# Altium integrated library TI Logic Boundary Scan.IntLib: 169 symbols (part 2 of 5)
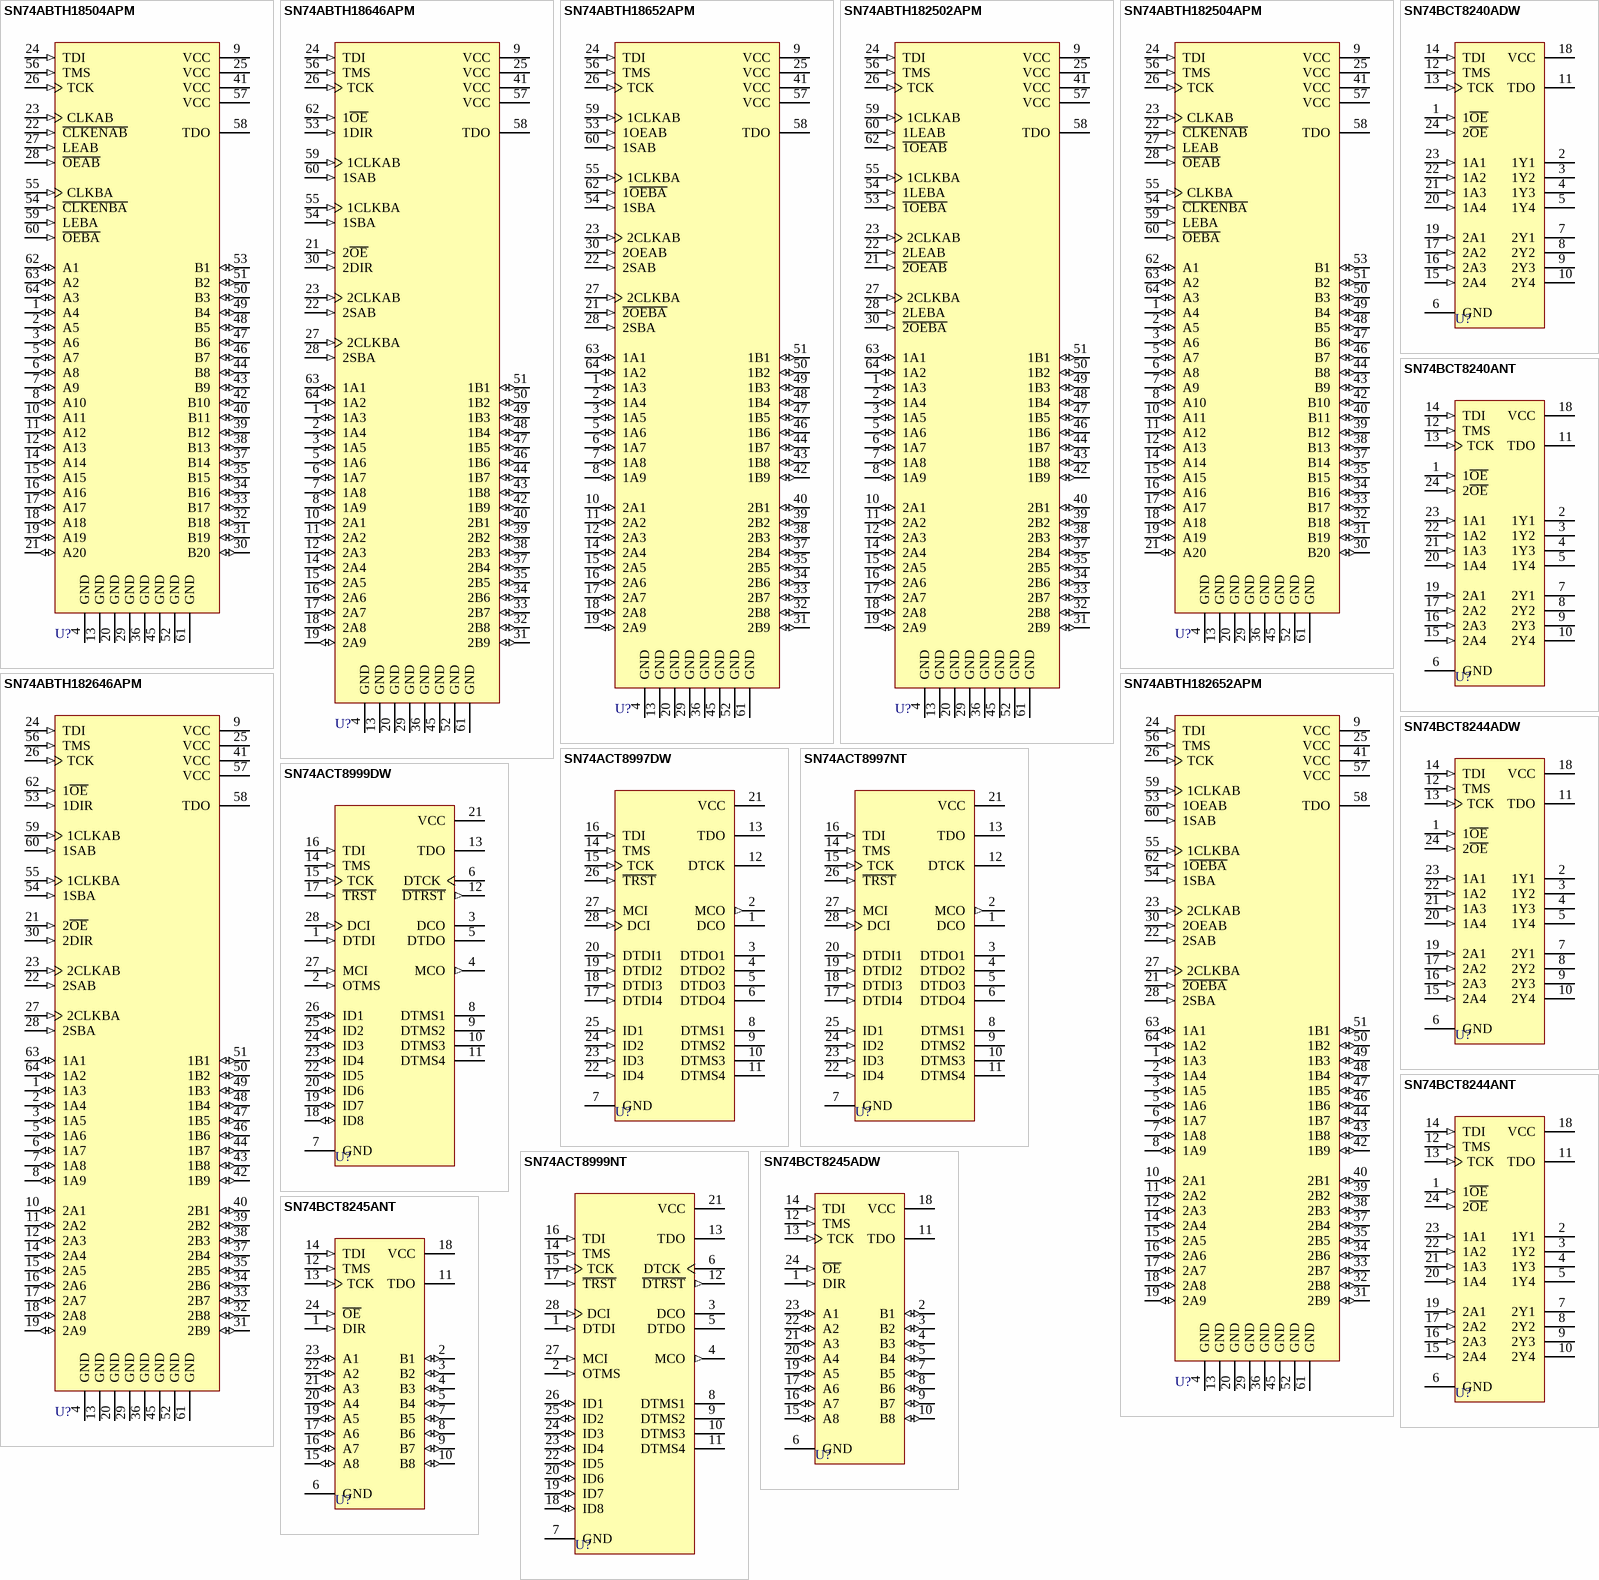
[diagram p13: symbols SN74ABTH18504APM to SN74BCT8245ANT]

## SN74ABTH18646APM
designator U?
Scan Test Device with 18-Bit Transceivers And Registers; Published: 8-Jun-2000; LatestRevisionDate: 13-Apr-2006; LatestRevisionNote: IPC-7351 Footprint Added.; DatasheetVersion: Jul-1996; PackageVersion: Dec-1996; PackageReference: PM064; Publisher: Altium Limited; PackageDescription: 64-Pin Thin Quad Flat Pack 0.5 mm Pitch; ComponentLink1Description: Manufacturer Link; ComponentLink1URL: http://www.ti.com/; ComponentLink2Description: Datasheet; ComponentLink2URL: http://www-s.ti.com/sc/ds/sn74abth18646a.pdf
footprint PM064_N (Thin QFP, 64-Leads, Body 10x10mm, Pitch 0.5mm, IPC Medium Density)
footprint PM064_L (Thin QFP, 64-Leads, Body 10x10mm, Pitch 0.5mm, IPC High Density)
footprint PM064_M (Thin QFP, 64-Leads, Body 10x10mm, Pitch 0.5mm, IPC Low Density)
3D model SN74ABTH18646A-PM064 (64-Pin Thin Quad Flat Pack 0.5 mm Pitch)
pins: 1 1A3 (io), 2 1A4 (io), 3 1A5 (io), 4 GND (power), 5 1A6 (io), 6 1A7 (io), 7 1A8 (io), 8 1A9 (io), 9 VCC (power), 10 2A1 (io), 11 2A2 (io), 12 2A3 (io), 13 GND (power), 14 2A4 (io), 15 2A5 (io), 16 2A6 (io), 17 2A7 (io), 18 2A8 (io), 19 2A9 (io), 20 GND (power), 21 2~{OE} (in), 22 2SAB (in), 23 2CLKAB (in), 24 TDI (in), 25 VCC (power), 26 TCK (in), 27 2CLKBA (in), 28 2SBA (in), 29 GND (power), 30 2DIR (in), 31 2B9 (io), 32 2B8 (io), 33 2B7 (io), 34 2B6 (io), 35 2B5 (io), 36 GND (power), 37 2B4 (io), 38 2B3 (io), 39 2B2 (io), 40 2B1 (io), 41 VCC (power), 42 1B9 (io), 43 1B8 (io), 44 1B7 (io), 45 GND (power), 46 1B6 (io), 47 1B5 (io), 48 1B4 (io), 49 1B3 (io), 50 1B2 (io), 51 1B1 (io), 52 GND (power), 53 1DIR (in), 54 1SBA (in), 55 1CLKBA (in), 56 TMS (in), 57 VCC (power), 58 TDO (hiz), 59 1CLKAB (in), 60 1SAB (in), 61 GND (power), 62 1~{OE} (in), 63 1A1 (io), 64 1A2 (io)

## SN74ABTH18652APM
designator U?
Scan Test Device with 18-Bit Transceivers and Registers; Published: 8-Jun-2000; LatestRevisionDate: 13-Apr-2006; LatestRevisionNote: IPC-7351 Footprint Added.; DatasheetVersion: Jul-1996; PackageVersion: Dec-1996; PackageReference: PM064; Publisher: Altium Limited; PackageDescription: 64-Pin Thin Quad Flat Pack 0.5 mm Pitch; ComponentLink1Description: Manufacturer Link; ComponentLink1URL: http://www.ti.com/; ComponentLink2Description: Datasheet; ComponentLink2URL: http://www-s.ti.com/sc/ds/sn74abth18652a.pdf
footprint PM064_N (Thin QFP, 64-Leads, Body 10x10mm, Pitch 0.5mm, IPC Medium Density)
footprint PM064_L (Thin QFP, 64-Leads, Body 10x10mm, Pitch 0.5mm, IPC High Density)
footprint PM064_M (Thin QFP, 64-Leads, Body 10x10mm, Pitch 0.5mm, IPC Low Density)
3D model SN74ABTH18652A-PM064 (64-Pin Thin Quad Flat Pack 0.5 mm Pitch)
pins: 1 1A3 (io), 2 1A4 (io), 3 1A5 (io), 4 GND (power), 5 1A6 (io), 6 1A7 (io), 7 1A8 (io), 8 1A9 (io), 9 VCC (power), 10 2A1 (io), 11 2A2 (io), 12 2A3 (io), 13 GND (power), 14 2A4 (io), 15 2A5 (io), 16 2A6 (io), 17 2A7 (io), 18 2A8 (io), 19 2A9 (io), 20 GND (power), 21 ~{2OEBA} (in), 22 2SAB (in), 23 2CLKAB (in), 24 TDI (in), 25 VCC (power), 26 TCK (in), 27 2CLKBA (in), 28 2SBA (in), 29 GND (power), 30 2OEAB (in), 31 2B9 (io), 32 2B8 (io), 33 2B7 (io), 34 2B6 (io), 35 2B5 (io), 36 GND (power), 37 2B4 (io), 38 2B3 (io), 39 2B2 (io), 40 2B1 (io), 41 VCC (power), 42 1B9 (io), 43 1B8 (io), 44 1B7 (io), 45 GND (power), 46 1B6 (io), 47 1B5 (io), 48 1B4 (io), 49 1B3 (io), 50 1B2 (io), 51 1B1 (io), 52 GND (power), 53 1OEAB (in), 54 1SBA (in), 55 1CLKBA (in), 56 TMS (in), 57 VCC (power), 58 TDO (hiz), 59 1CLKAB (in), 60 1SAB (in), 61 GND (power), 62 1~{OEBA} (in), 63 1A1 (io), 64 1A2 (io)

## SN74ABTH182502APM
designator U?
Scan Test Device with 18-Bit Universal Bus Transceivers; Published: 8-Jun-2000; LatestRevisionDate: 13-Apr-2006; LatestRevisionNote: IPC-7351 Footprint Added.; DatasheetVersion: Dec-1996; PackageVersion: Dec-1996; PackageReference: PM064; Publisher: Altium Limited; PackageDescription: 64-Pin Thin Quad Flat Pack 0.5 mm Pitch; ComponentLink1Description: Manufacturer Link; ComponentLink1URL: http://www.ti.com/; ComponentLink2Description: Datasheet; ComponentLink2URL: http://www-s.ti.com/sc/ds/sn74abth18502a.pdf
footprint PM064_N (Thin QFP, 64-Leads, Body 10x10mm, Pitch 0.5mm, IPC Medium Density)
footprint PM064_L (Thin QFP, 64-Leads, Body 10x10mm, Pitch 0.5mm, IPC High Density)
footprint PM064_M (Thin QFP, 64-Leads, Body 10x10mm, Pitch 0.5mm, IPC Low Density)
3D model SN74ABTH182502A-PM064 (64-Pin Thin Quad Flat Pack 0.5 mm Pitch)
pins: 1 1A3 (io), 2 1A4 (io), 3 1A5 (io), 4 GND (power), 5 1A6 (io), 6 1A7 (io), 7 1A8 (io), 8 1A9 (io), 9 VCC (power), 10 2A1 (io), 11 2A2 (io), 12 2A3 (io), 13 GND (power), 14 2A4 (io), 15 2A5 (io), 16 2A6 (io), 17 2A7 (io), 18 2A8 (io), 19 2A9 (io), 20 GND (power), 21 ~{2OEAB} (in), 22 2LEAB (in), 23 2CLKAB (in), 24 TDI (in), 25 VCC (power), 26 TCK (in), 27 2CLKBA (in), 28 2LEBA (in), 29 GND (power), 30 ~{2OEBA} (in), 31 2B9 (io), 32 2B8 (io), 33 2B7 (io), 34 2B6 (io), 35 2B5 (io), 36 GND (power), 37 2B4 (io), 38 2B3 (io), 39 2B2 (io), 40 2B1 (io), 41 VCC (power), 42 1B9 (io), 43 1B8 (io), 44 1B7 (io), 45 GND (power), 46 1B6 (io), 47 1B5 (io), 48 1B4 (io), 49 1B3 (io), 50 1B2 (io), 51 1B1 (io), 52 GND (power), 53 ~{1OEBA} (in), 54 1LEBA (in), 55 1CLKBA (in), 56 TMS (in), 57 VCC (power), 58 TDO (hiz), 59 1CLKAB (in), 60 1LEAB (in), 61 GND (power), 62 ~{1OEAB} (in), 63 1A1 (io), 64 1A2 (io)

## SN74ABTH182504APM
designator U?
Scan Test Device with 20-Bit Universal Bus Transceiver; Published: 8-Jun-2000; LatestRevisionDate: 13-Apr-2006; LatestRevisionNote: IPC-7351 Footprint Added.; DatasheetVersion: Jul-1996; PackageVersion: Dec-1996; PackageReference: PM064; Publisher: Altium Limited; PackageDescription: 64-Pin Thin Quad Flat Pack 0.5 mm Pitch; ComponentLink1Description: Manufacturer Link; ComponentLink1URL: http://www.ti.com/; ComponentLink2Description: Datasheet; ComponentLink2URL: http://www-s.ti.com/sc/ds/sn74abth18504a.pdf
footprint PM064_N (Thin QFP, 64-Leads, Body 10x10mm, Pitch 0.5mm, IPC Medium Density)
footprint PM064_L (Thin QFP, 64-Leads, Body 10x10mm, Pitch 0.5mm, IPC High Density)
footprint PM064_M (Thin QFP, 64-Leads, Body 10x10mm, Pitch 0.5mm, IPC Low Density)
3D model SN74ABTH182504A-PM064 (64-Pin Thin Quad Flat Pack 0.5 mm Pitch)
pins: 1 A4 (io), 2 A5 (io), 3 A6 (io), 4 GND (power), 5 A7 (io), 6 A8 (io), 7 A9 (io), 8 A10 (io), 9 VCC (power), 10 A11 (io), 11 A12 (io), 12 A13 (io), 13 GND (power), 14 A14 (io), 15 A15 (io), 16 A16 (io), 17 A17 (io), 18 A18 (io), 19 A19 (io), 20 GND (power), 21 A20 (io), 22 ~{CLKENAB} (in), 23 CLKAB (in), 24 TDI (in), 25 VCC (power), 26 TCK (in), 27 LEAB (in), 28 ~{OEAB} (in), 29 GND (power), 30 B20 (io), 31 B19 (io), 32 B18 (io), 33 B17 (io), 34 B16 (io), 35 B15 (io), 36 GND (power), 37 B14 (io), 38 B13 (io), 39 B12 (io), 40 B11 (io), 41 VCC (power), 42 B10 (io), 43 B9 (io), 44 B8 (io), 45 GND (power), 46 B7 (io), 47 B6 (io), 48 B5 (io), 49 B4 (io), 50 B3 (io), 51 B2 (io), 52 GND (power), 53 B1 (io), 54 ~{CLKENBA} (in), 55 CLKBA (in), 56 TMS (in), 57 VCC (power), 58 TDO (hiz), 59 LEBA (in), 60 ~{OEBA} (in), 61 GND (power), 62 A1 (io), 63 A2 (io), 64 A3 (io)

## SN74ABTH182646APM
designator U?
Scan Test Device with 18-Bit Transceivers and Registers; Published: 8-Jun-2000; LatestRevisionDate: 13-Apr-2006; LatestRevisionNote: IPC-7351 Footprint Added.; DatasheetVersion: Jul-1996; PackageVersion: Dec-1996; PackageReference: PM064; Publisher: Altium Limited; PackageDescription: 64-Pin Thin Quad Flat Pack 0.5 mm Pitch; ComponentLink1Description: Manufacturer Link; ComponentLink1URL: http://www.ti.com/; ComponentLink2Description: Datasheet; ComponentLink2URL: http://www-s.ti.com/sc/ds/sn74abth18646a.pdf
footprint PM064_N (Thin QFP, 64-Leads, Body 10x10mm, Pitch 0.5mm, IPC Medium Density)
footprint PM064_L (Thin QFP, 64-Leads, Body 10x10mm, Pitch 0.5mm, IPC High Density)
footprint PM064_M (Thin QFP, 64-Leads, Body 10x10mm, Pitch 0.5mm, IPC Low Density)
3D model SN74ABTH182646A-PM064 (64-Pin Thin Quad Flat Pack 0.5 mm Pitch)
pins: 1 1A3 (io), 2 1A4 (io), 3 1A5 (io), 4 GND (power), 5 1A6 (io), 6 1A7 (io), 7 1A8 (io), 8 1A9 (io), 9 VCC (power), 10 2A1 (io), 11 2A2 (io), 12 2A3 (io), 13 GND (power), 14 2A4 (io), 15 2A5 (io), 16 2A6 (io), 17 2A7 (io), 18 2A8 (io), 19 2A9 (io), 20 GND (power), 21 2~{OE} (in), 22 2SAB (in), 23 2CLKAB (in), 24 TDI (in), 25 VCC (power), 26 TCK (in), 27 2CLKBA (in), 28 2SBA (in), 29 GND (power), 30 2DIR (in), 31 2B9 (io), 32 2B8 (io), 33 2B7 (io), 34 2B6 (io), 35 2B5 (io), 36 GND (power), 37 2B4 (io), 38 2B3 (io), 39 2B2 (io), 40 2B1 (io), 41 VCC (power), 42 1B9 (io), 43 1B8 (io), 44 1B7 (io), 45 GND (power), 46 1B6 (io), 47 1B5 (io), 48 1B4 (io), 49 1B3 (io), 50 1B2 (io), 51 1B1 (io), 52 GND (power), 53 1DIR (in), 54 1SBA (in), 55 1CLKBA (in), 56 TMS (in), 57 VCC (power), 58 TDO (hiz), 59 1CLKAB (in), 60 1SAB (in), 61 GND (power), 62 1~{OE} (in), 63 1A1 (io), 64 1A2 (io)

## SN74ABTH182652APM
designator U?
Scan Test Device with 18-Bit Transceivers and Registers; Published: 8-Jun-2000; LatestRevisionDate: 13-Apr-2006; LatestRevisionNote: IPC-7351 Footprint Added.; DatasheetVersion: Jul-1996; PackageVersion: Dec-1996; PackageReference: PM064; Publisher: Altium Limited; PackageDescription: 64-Pin Thin Quad Flat Pack 0.5 mm Pitch; ComponentLink1Description: Manufacturer Link; ComponentLink1URL: http://www.ti.com/; ComponentLink2Description: Datasheet; ComponentLink2URL: http://www-s.ti.com/sc/ds/sn74abth18652a.pdf
footprint PM064_N (Thin QFP, 64-Leads, Body 10x10mm, Pitch 0.5mm, IPC Medium Density)
footprint PM064_L (Thin QFP, 64-Leads, Body 10x10mm, Pitch 0.5mm, IPC High Density)
footprint PM064_M (Thin QFP, 64-Leads, Body 10x10mm, Pitch 0.5mm, IPC Low Density)
3D model SN74ABTH182652A-PM064 (64-Pin Thin Quad Flat Pack 0.5 mm Pitch)
pins: 1 1A3 (io), 2 1A4 (io), 3 1A5 (io), 4 GND (power), 5 1A6 (io), 6 1A7 (io), 7 1A8 (io), 8 1A9 (io), 9 VCC (power), 10 2A1 (io), 11 2A2 (io), 12 2A3 (io), 13 GND (power), 14 2A4 (io), 15 2A5 (io), 16 2A6 (io), 17 2A7 (io), 18 2A8 (io), 19 2A9 (io), 20 GND (power), 21 ~{2OEBA} (in), 22 2SAB (in), 23 2CLKAB (in), 24 TDI (in), 25 VCC (power), 26 TCK (in), 27 2CLKBA (in), 28 2SBA (in), 29 GND (power), 30 2OEAB (in), 31 2B9 (io), 32 2B8 (io), 33 2B7 (io), 34 2B6 (io), 35 2B5 (io), 36 GND (power), 37 2B4 (io), 38 2B3 (io), 39 2B2 (io), 40 2B1 (io), 41 VCC (power), 42 1B9 (io), 43 1B8 (io), 44 1B7 (io), 45 GND (power), 46 1B6 (io), 47 1B5 (io), 48 1B4 (io), 49 1B3 (io), 50 1B2 (io), 51 1B1 (io), 52 GND (power), 53 1OEAB (in), 54 1SBA (in), 55 1CLKBA (in), 56 TMS (in), 57 VCC (power), 58 TDO (hiz), 59 1CLKAB (in), 60 1SAB (in), 61 GND (power), 62 1~{OEBA} (in), 63 1A1 (io), 64 1A2 (io)

## SN74ACT8997DW
designator U?
Scan-Path Linker with 4-Bit Identification Bus Scan-Controlled IEEE Std 1149.1 (JTAG) Tap Concatenator; Published: 8-Jun-2000; LatestRevisionDate: 13-Apr-2006; LatestRevisionNote: IPC-7351 Footprint Added.; DatasheetVersion: Dec-1996; PackageVersion: Mar-2000; PackageReference: DW028; Publisher: Altium Limited; PackageDescription: 28-Pin Plastic Small Outline Integrated Circuit 1.27 mm Pitch; Code_JEDEC: MS-013; ComponentLink1Description: Manufacturer Link; ComponentLink1URL: http://www.ti.com/; ComponentLink2Description: Datasheet; ComponentLink2URL: http://www-s.ti.com/sc/ds/sn74act8997.pdf
footprint DW028_N (SOIC, 28-Leads, Body 17.9x7.5mm, Pitch 1.27mm, IPC Medium Density)
footprint DW028_L (SOIC, 28-Leads, Body 17.9x7.5mm, Pitch 1.27mm, IPC High Density)
footprint DW028_M (SOIC, 28-Leads, Body 17.9x7.5mm, Pitch 1.27mm, IPC Low Density)
3D model DW028 (28-Pin Plastic Small Outline Integrated Circuit 1.27 mm Pitch)
signal-integrity model SN74ACT8997DW
pins: 1 DCO (hiz), 2 MCO (out), 3 DTDO1 (hiz), 4 DTDO2 (hiz), 5 DTDO3 (hiz), 6 DTDO4 (hiz), 7 GND (power), 8 DTMS1 (hiz), 9 DTMS2 (hiz), 10 DTMS3 (hiz), 11 DTMS4 (hiz), 12 DTCK (hiz), 13 TDO (hiz), 14 TMS (in), 15 TCK (in), 16 TDI (in), 17 DTDI4 (in), 18 DTDI3 (in), 19 DTDI2 (in), 20 DTDI1 (in), 21 VCC (power), 22 ID4 (in), 23 ID3 (in), 24 ID2 (in), 25 ID1 (in), 26 ~{TRST} (in), 27 MCI (in), 28 DCI (in)

## SN74ACT8997NT
designator U?
Scan-Path Linker with 4-Bit Identification Bus Scan-Controlled IEEE Std 1149.1 (JTAG) Tap Concatenator; ComponentAvailability: Obsolete; Published: 8-Jun-2000; LatestRevisionDate: 06-Jun-2005; LatestRevisionNote: Stylized 3D Model Added.; DatasheetVersion: Dec-1996; PackageVersion: Oct-1994; PackageReference: NT028; Publisher: Altium Limited; PackageDescription: DIP; 28 Leads; Row Spacing 7.62 mm; Pitch 2.54 mm; ComponentLink1Description: Manufacturer Link; ComponentLink1URL: http://www.ti.com/; ComponentLink2Description: Datasheet; ComponentLink2URL: http://www-s.ti.com/sc/ds/sn74act8997.pdf
footprint NT028 (DIP; 28 Leads; Row Spacing 7.62 mm; Pitch 2.54 mm)
3D model NT028 (DIP; 28 Leads; Row Spacing 7.62 mm; Pitch 2.54 mm)
signal-integrity model SN74ACT8997NT
pins: 1 DCO (hiz), 2 MCO (out), 3 DTDO1 (hiz), 4 DTDO2 (hiz), 5 DTDO3 (hiz), 6 DTDO4 (hiz), 7 GND (power), 8 DTMS1 (hiz), 9 DTMS2 (hiz), 10 DTMS3 (hiz), 11 DTMS4 (hiz), 12 DTCK (hiz), 13 TDO (hiz), 14 TMS (in), 15 TCK (in), 16 TDI (in), 17 DTDI4 (in), 18 DTDI3 (in), 19 DTDI2 (in), 20 DTDI1 (in), 21 VCC (power), 22 ID4 (in), 23 ID3 (in), 24 ID2 (in), 25 ID1 (in), 26 ~{TRST} (in), 27 MCI (in), 28 DCI (in)

## SN74ACT8999DW
designator U?
Scan-Path Selector with 8-Bit Bidirectional Data Bus Scan-Controlled Tap Multiplexer; ComponentAvailability: Obsolete; Published: 8-Jun-2000; LatestRevisionDate: 13-Apr-2006; LatestRevisionNote: IPC-7351 Footprint Added.; DatasheetVersion: Dec-1996; PackageVersion: Mar-2000; PackageReference: DW028; Publisher: Altium Limited; PackageDescription: 28-Pin Plastic Small Outline Integrated Circuit 1.27 mm Pitch; Code_JEDEC: MS-013; ComponentLink1Description: Manufacturer Link; ComponentLink1URL: http://www.ti.com/; ComponentLink2Description: Datasheet; ComponentLink2URL: http://www-s.ti.com/sc/ds/sn74act8999.pdf
footprint DW028_N (SOIC, 28-Leads, Body 17.9x7.5mm, Pitch 1.27mm, IPC Medium Density)
footprint DW028_L (SOIC, 28-Leads, Body 17.9x7.5mm, Pitch 1.27mm, IPC High Density)
footprint DW028_M (SOIC, 28-Leads, Body 17.9x7.5mm, Pitch 1.27mm, IPC Low Density)
3D model DW028 (28-Pin Plastic Small Outline Integrated Circuit 1.27 mm Pitch)
signal-integrity model SN74ACT8999DW
pins: 1 DTDI (in), 2 OTMS (in), 3 DCO (hiz), 4 MCO (out), 5 DTDO (hiz), 6 DTCK (hiz), 7 GND (power), 8 DTMS1 (hiz), 9 DTMS2 (hiz), 10 DTMS3 (hiz), 11 DTMS4 (hiz), 12 ~{DTRST} (out), 13 TDO (hiz), 14 TMS (in), 15 TCK (in), 16 TDI (in), 17 ~{TRST} (in), 18 ID8 (io), 19 ID7 (io), 20 ID6 (io), 21 VCC (power), 22 ID5 (io), 23 ID4 (io), 24 ID3 (io), 25 ID2 (io), 26 ID1 (io), 27 MCI (in), 28 DCI (in)

## SN74ACT8999NT
designator U?
Scan-Path Selector with 8-Bit Bidirectional Data Bus Scan-Controlled Tap Multiplexer; ComponentAvailability: Obsolete; Published: 8-Jun-2000; LatestRevisionDate: 06-Jun-2005; LatestRevisionNote: Stylized 3D Model Added.; DatasheetVersion: Dec-1996; PackageVersion: Oct-1994; PackageReference: NT028; Publisher: Altium Limited; PackageDescription: DIP; 28 Leads; Row Spacing 7.62 mm; Pitch 2.54 mm; ComponentLink1Description: Manufacturer Link; ComponentLink1URL: http://www.ti.com/; ComponentLink2Description: Datasheet; ComponentLink2URL: http://www-s.ti.com/sc/ds/sn74act8999.pdf
footprint NT028 (DIP; 28 Leads; Row Spacing 7.62 mm; Pitch 2.54 mm)
3D model NT028 (DIP; 28 Leads; Row Spacing 7.62 mm; Pitch 2.54 mm)
signal-integrity model SN74ACT8999NT
pins: 1 DTDI (in), 2 OTMS (in), 3 DCO (hiz), 4 MCO (out), 5 DTDO (hiz), 6 DTCK (hiz), 7 GND (power), 8 DTMS1 (hiz), 9 DTMS2 (hiz), 10 DTMS3 (hiz), 11 DTMS4 (hiz), 12 ~{DTRST} (out), 13 TDO (hiz), 14 TMS (in), 15 TCK (in), 16 TDI (in), 17 ~{TRST} (in), 18 ID8 (io), 19 ID7 (io), 20 ID6 (io), 21 VCC (power), 22 ID5 (io), 23 ID4 (io), 24 ID3 (io), 25 ID2 (io), 26 ID1 (io), 27 MCI (in), 28 DCI (in)

## SN74BCT8240ADW
designator U?
Scan Test Device with Octal Inverting Buffers; Published: 8-Jun-2000; LatestRevisionDate: 13-Apr-2006; LatestRevisionNote: IPC-7351 Footprint Added.; DatasheetVersion: Dec-1996; PackageVersion: Mar-2000; PackageReference: DW024; Publisher: Altium Limited; PackageDescription: 24-Pin Plastic Small Outline Integrated Circuit 1.27 mm Pitch; Code_JEDEC: MS-013; ComponentLink1Description: Manufacturer Link; ComponentLink1URL: http://www.ti.com/; ComponentLink2Description: Datasheet; ComponentLink2URL: http://www-s.ti.com/sc/ds/sn74bct8240a.pdf
footprint DW024_N (SOIC, 24-Leads, Body 15.4x7.5mm, Pitch 1.27mm, IPC Medium Density)
footprint DW024_L (SOIC, 24-Leads, Body 15.4x7.5mm, Pitch 1.27mm, IPC High Density)
footprint DW024_M (SOIC, 24-Leads, Body 15.4x7.5mm, Pitch 1.27mm, IPC Low Density)
3D model DW024 (24-Pin Plastic Small Outline Integrated Circuit 1.27 mm Pitch)
signal-integrity model SN74BCT8240ADW
pins: 1 1~{OE} (in), 2 1Y1 (hiz), 3 1Y2 (hiz), 4 1Y3 (hiz), 5 1Y4 (hiz), 6 GND (power), 7 2Y1 (hiz), 8 2Y2 (hiz), 9 2Y3 (hiz), 10 2Y4 (hiz), 11 TDO (hiz), 12 TMS (in), 13 TCK (in), 14 TDI (in), 15 2A4 (in), 16 2A3 (in), 17 2A2 (in), 18 VCC (power), 19 2A1 (in), 20 1A4 (in), 21 1A3 (in), 22 1A2 (in), 23 1A1 (in), 24 2~{OE} (in)

## SN74BCT8240ANT
designator U?
Scan Test Device with Octal Inverting Buffers; Published: 8-Jun-2000; LatestRevisionDate: 06-Jun-2005; LatestRevisionNote: Stylized 3D Model Added.; DatasheetVersion: Dec-1996; PackageVersion: Oct-1994; PackageReference: NT024; Publisher: Altium Limited; PackageDescription: DIP; 24 Leads; Row Spacing 7.62 mm; Pitch 2.54 mm; Code_JEDEC: MS-001-AF; ComponentLink1Description: Manufacturer Link; ComponentLink1URL: http://www.ti.com/; ComponentLink2Description: Datasheet; ComponentLink2URL: http://www-s.ti.com/sc/ds/sn74bct8240a.pdf
footprint NT024 (DIP; 24 Leads; Row Spacing 7.62 mm; Pitch 2.54 mm)
3D model JT024 (DIP; 24 Leads; Row Spacing 7.62 mm; Pitch 2.54 mm)
signal-integrity model SN74BCT8240ANT
pins: 1 1~{OE} (in), 2 1Y1 (hiz), 3 1Y2 (hiz), 4 1Y3 (hiz), 5 1Y4 (hiz), 6 GND (power), 7 2Y1 (hiz), 8 2Y2 (hiz), 9 2Y3 (hiz), 10 2Y4 (hiz), 11 TDO (hiz), 12 TMS (in), 13 TCK (in), 14 TDI (in), 15 2A4 (in), 16 2A3 (in), 17 2A2 (in), 18 VCC (power), 19 2A1 (in), 20 1A4 (in), 21 1A3 (in), 22 1A2 (in), 23 1A1 (in), 24 2~{OE} (in)

## SN74BCT8244ADW
designator U?
Scan Test Device with Octal Buffers; Published: 8-Jun-2000; LatestRevisionDate: 13-Apr-2006; LatestRevisionNote: IPC-7351 Footprint Added.; DatasheetVersion: Jul-1996; PackageVersion: Mar-2000; PackageReference: DW024; Publisher: Altium Limited; PackageDescription: 24-Pin Plastic Small Outline Integrated Circuit 1.27 mm Pitch; Code_JEDEC: MS-013; ComponentLink1Description: Manufacturer Link; ComponentLink1URL: http://www.ti.com/; ComponentLink2Description: Datasheet; ComponentLink2URL: http://www-s.ti.com/sc/ds/sn74bct8244a.pdf
footprint DW024_N (SOIC, 24-Leads, Body 15.4x7.5mm, Pitch 1.27mm, IPC Medium Density)
footprint DW024_L (SOIC, 24-Leads, Body 15.4x7.5mm, Pitch 1.27mm, IPC High Density)
footprint DW024_M (SOIC, 24-Leads, Body 15.4x7.5mm, Pitch 1.27mm, IPC Low Density)
3D model DW024 (24-Pin Plastic Small Outline Integrated Circuit 1.27 mm Pitch)
signal-integrity model SN74BCT8244ADW
pins: 1 1~{OE} (in), 2 1Y1 (hiz), 3 1Y2 (hiz), 4 1Y3 (hiz), 5 1Y4 (hiz), 6 GND (power), 7 2Y1 (hiz), 8 2Y2 (hiz), 9 2Y3 (hiz), 10 2Y4 (hiz), 11 TDO (hiz), 12 TMS (in), 13 TCK (in), 14 TDI (in), 15 2A4 (in), 16 2A3 (in), 17 2A2 (in), 18 VCC (power), 19 2A1 (in), 20 1A4 (in), 21 1A3 (in), 22 1A2 (in), 23 1A1 (in), 24 2~{OE} (in)

## SN74BCT8244ANT
designator U?
Scan Test Device with Octal Buffers; Published: 8-Jun-2000; LatestRevisionDate: 06-Jun-2005; LatestRevisionNote: Stylized 3D Model Added.; DatasheetVersion: Jul-1996; PackageVersion: Oct-1994; PackageReference: NT024; Publisher: Altium Limited; PackageDescription: DIP; 24 Leads; Row Spacing 7.62 mm; Pitch 2.54 mm; Code_JEDEC: MS-001-AF; ComponentLink1Description: Manufacturer Link; ComponentLink1URL: http://www.ti.com/; ComponentLink2Description: Datasheet; ComponentLink2URL: http://www-s.ti.com/sc/ds/sn74bct8244a.pdf
footprint NT024 (DIP; 24 Leads; Row Spacing 7.62 mm; Pitch 2.54 mm)
3D model JT024 (DIP; 24 Leads; Row Spacing 7.62 mm; Pitch 2.54 mm)
signal-integrity model SN74BCT8244ANT
pins: 1 1~{OE} (in), 2 1Y1 (hiz), 3 1Y2 (hiz), 4 1Y3 (hiz), 5 1Y4 (hiz), 6 GND (power), 7 2Y1 (hiz), 8 2Y2 (hiz), 9 2Y3 (hiz), 10 2Y4 (hiz), 11 TDO (hiz), 12 TMS (in), 13 TCK (in), 14 TDI (in), 15 2A4 (in), 16 2A3 (in), 17 2A2 (in), 18 VCC (power), 19 2A1 (in), 20 1A4 (in), 21 1A3 (in), 22 1A2 (in), 23 1A1 (in), 24 2~{OE} (in)

## SN74BCT8245ADW
designator U?
Scan Test Device with Octal Bus Transceivers; Published: 8-Jun-2000; LatestRevisionDate: 13-Apr-2006; LatestRevisionNote: IPC-7351 Footprint Added.; DatasheetVersion: Jul-1996; PackageVersion: Mar-2000; PackageReference: DW024; Publisher: Altium Limited; PackageDescription: 24-Pin Plastic Small Outline Integrated Circuit 1.27 mm Pitch; Code_JEDEC: MS-013; ComponentLink1Description: Manufacturer Link; ComponentLink1URL: http://www.ti.com/; ComponentLink2Description: Datasheet; ComponentLink2URL: http://www-s.ti.com/sc/ds/sn74bct8245a.pdf
footprint DW024_N (SOIC, 24-Leads, Body 15.4x7.5mm, Pitch 1.27mm, IPC Medium Density)
footprint DW024_L (SOIC, 24-Leads, Body 15.4x7.5mm, Pitch 1.27mm, IPC High Density)
footprint DW024_M (SOIC, 24-Leads, Body 15.4x7.5mm, Pitch 1.27mm, IPC Low Density)
3D model DW024 (24-Pin Plastic Small Outline Integrated Circuit 1.27 mm Pitch)
signal-integrity model SN74BCT8245ADW
pins: 1 DIR (in), 2 B1 (io), 3 B2 (io), 4 B3 (io), 5 B4 (io), 6 GND (power), 7 B5 (io), 8 B6 (io), 9 B7 (io), 10 B8 (io), 11 TDO (hiz), 12 TMS (in), 13 TCK (in), 14 TDI (in), 15 A8 (io), 16 A7 (io), 17 A6 (io), 18 VCC (power), 19 A5 (io), 20 A4 (io), 21 A3 (io), 22 A2 (io), 23 A1 (io), 24 ~{OE} (in)

## SN74BCT8245ANT
designator U?
Scan Test Device with Octal Bus Transceivers; Published: 8-Jun-2000; LatestRevisionDate: 06-Jun-2005; LatestRevisionNote: Stylized 3D Model Added.; DatasheetVersion: Jul-1996; PackageVersion: Oct-1994; PackageReference: NT024; Publisher: Altium Limited; PackageDescription: DIP; 24 Leads; Row Spacing 7.62 mm; Pitch 2.54 mm; Code_JEDEC: MS-001-AF; ComponentLink1Description: Manufacturer Link; ComponentLink1URL: http://www.ti.com/; ComponentLink2Description: Datasheet; ComponentLink2URL: http://www-s.ti.com/sc/ds/sn74bct8245a.pdf
footprint NT024 (DIP; 24 Leads; Row Spacing 7.62 mm; Pitch 2.54 mm)
3D model JT024 (DIP; 24 Leads; Row Spacing 7.62 mm; Pitch 2.54 mm)
signal-integrity model SN74BCT8245ANT
pins: 1 DIR (in), 2 B1 (io), 3 B2 (io), 4 B3 (io), 5 B4 (io), 6 GND (power), 7 B5 (io), 8 B6 (io), 9 B7 (io), 10 B8 (io), 11 TDO (hiz), 12 TMS (in), 13 TCK (in), 14 TDI (in), 15 A8 (io), 16 A7 (io), 17 A6 (io), 18 VCC (power), 19 A5 (io), 20 A4 (io), 21 A3 (io), 22 A2 (io), 23 A1 (io), 24 ~{OE} (in)

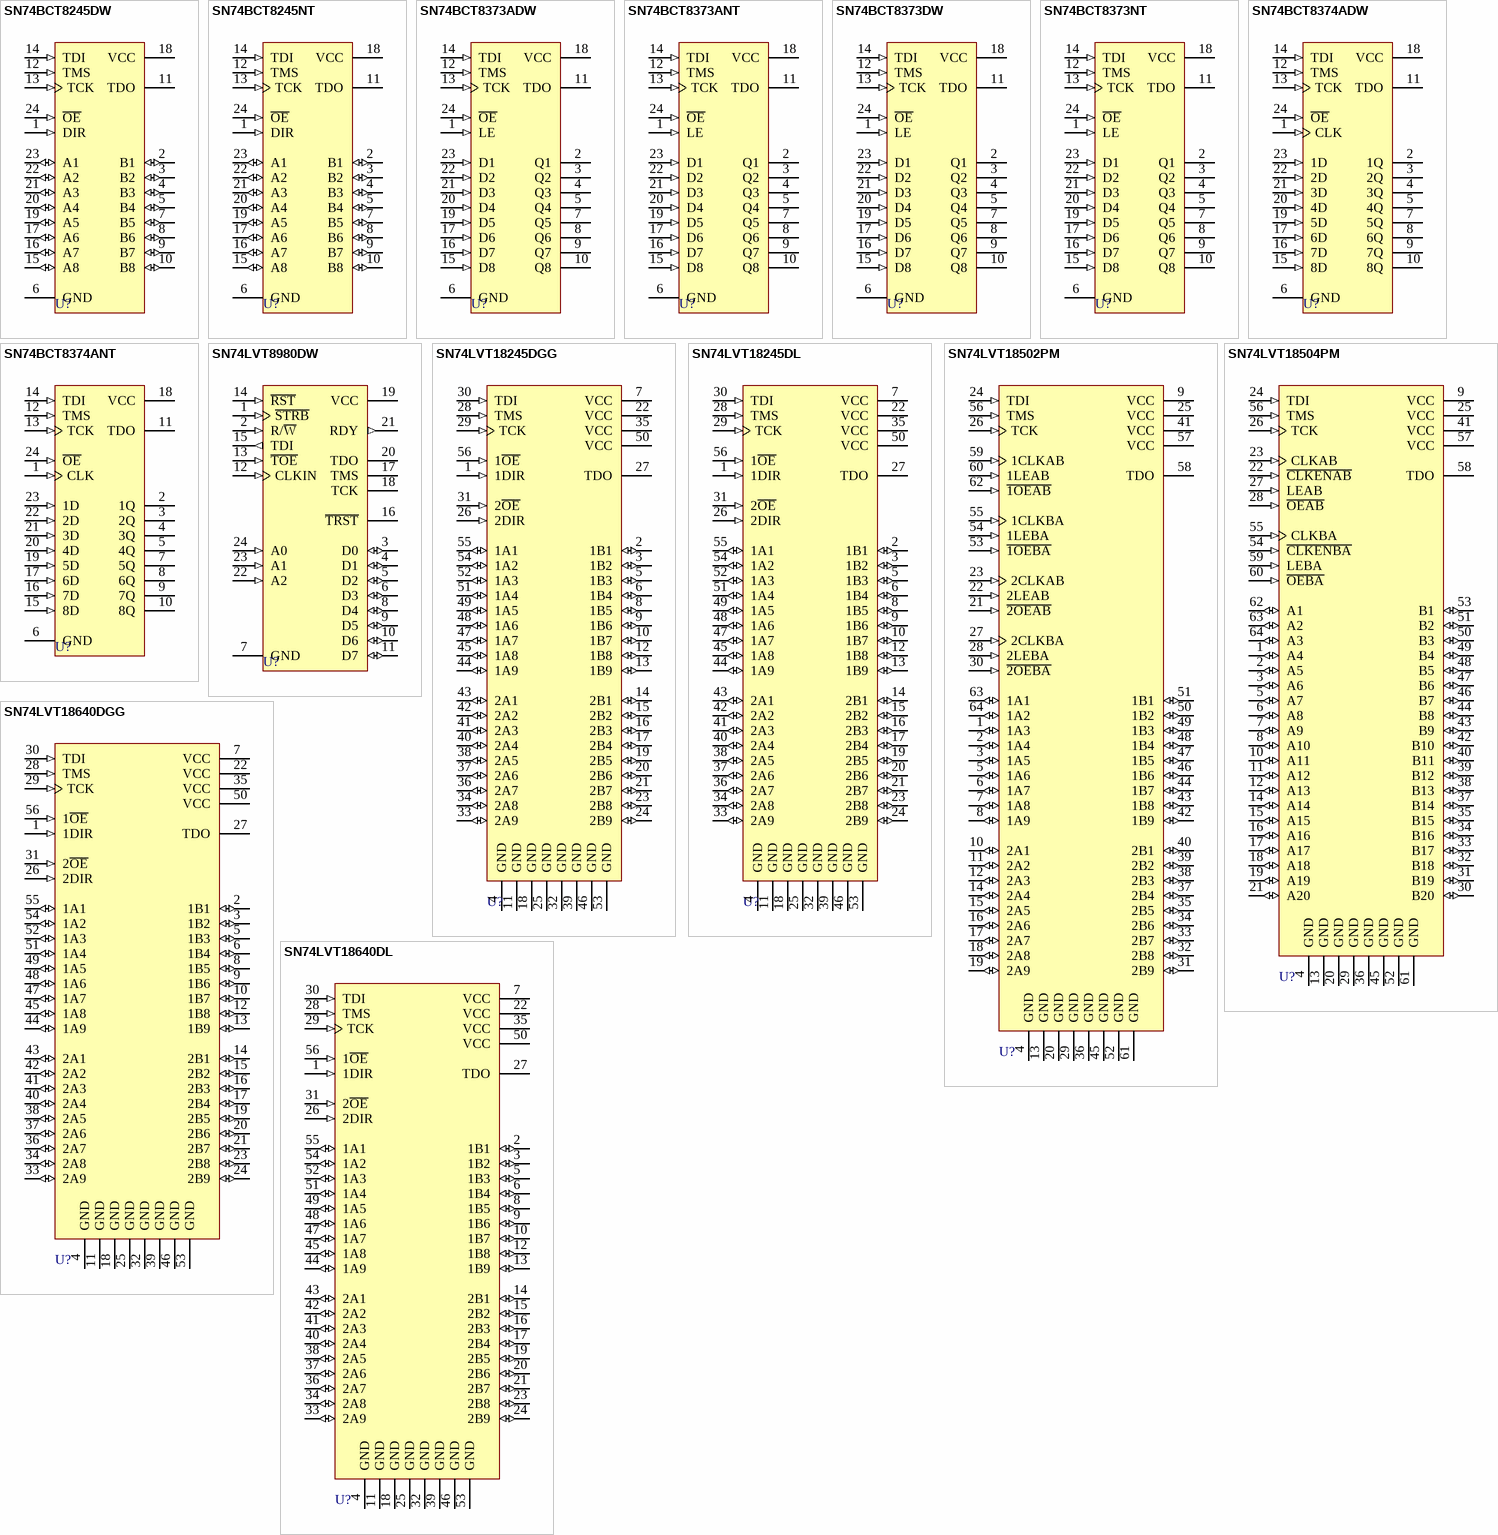
[diagram p3: symbols SN74BCT8245DW to SN74LVT18640DL]

## SN74BCT8245DW
designator U?
Scan Test Device with Octal Bus Transceiver; Published: 8-Jun-2000; LatestRevisionDate: 13-Apr-2006; LatestRevisionNote: IPC-7351 Footprint Added.; DatasheetVersion: May-1990; PackageVersion: Mar-2000; PackageReference: DW024; Publisher: Altium Limited; PackageDescription: 24-Pin Plastic Small Outline Integrated Circuit 1.27 mm Pitch; Code_JEDEC: MS-013; ComponentLink1Description: Manufacturer Link; ComponentLink1URL: http://www.ti.com/
footprint DW024_N (SOIC, 24-Leads, Body 15.4x7.5mm, Pitch 1.27mm, IPC Medium Density)
footprint DW024_L (SOIC, 24-Leads, Body 15.4x7.5mm, Pitch 1.27mm, IPC High Density)
footprint DW024_M (SOIC, 24-Leads, Body 15.4x7.5mm, Pitch 1.27mm, IPC Low Density)
3D model DW024 (24-Pin Plastic Small Outline Integrated Circuit 1.27 mm Pitch)
signal-integrity model SN74BCT8245DW
pins: 1 DIR (in), 2 B1 (io), 3 B2 (io), 4 B3 (io), 5 B4 (io), 6 GND (power), 7 B5 (io), 8 B6 (io), 9 B7 (io), 10 B8 (io), 11 TDO (hiz), 12 TMS (in), 13 TCK (in), 14 TDI (in), 15 A8 (io), 16 A7 (io), 17 A6 (io), 18 VCC (power), 19 A5 (io), 20 A4 (io), 21 A3 (io), 22 A2 (io), 23 A1 (io), 24 ~{OE} (in)

## SN74BCT8245NT
designator U?
Scan Test Device with Octal Bus Transceiver; Published: 8-Jun-2000; LatestRevisionDate: 06-Jun-2005; LatestRevisionNote: Stylized 3D Model Added.; DatasheetVersion: May-1990; PackageVersion: Oct-1994; PackageReference: NT024C; Publisher: Altium Limited; PackageDescription: DIP; 24 Leads; Row Spacing 7.62 mm; Pitch 2.54 mm; Code_JEDEC: MS-001-AF; ComponentLink1Description: Manufacturer Link; ComponentLink1URL: http://www.ti.com/
footprint NT024C (DIP; 24 Leads; Row Spacing 7.62 mm; Pitch 2.54 mm)
3D model JT024 (DIP; 24 Leads; Row Spacing 7.62 mm; Pitch 2.54 mm)
signal-integrity model SN74BCT8245NT
pins: 1 DIR (in), 2 B1 (io), 3 B2 (io), 4 B3 (io), 5 B4 (io), 6 GND (power), 7 B5 (io), 8 B6 (io), 9 B7 (io), 10 B8 (io), 11 TDO (hiz), 12 TMS (in), 13 TCK (in), 14 TDI (in), 15 A8 (io), 16 A7 (io), 17 A6 (io), 18 VCC (power), 19 A5 (io), 20 A4 (io), 21 A3 (io), 22 A2 (io), 23 A1 (io), 24 ~{OE} (in)

## SN74BCT8373ADW
designator U?
Scan Test Device with Octal D-Type Latches; Published: 8-Jun-2000; LatestRevisionDate: 13-Apr-2006; LatestRevisionNote: IPC-7351 Footprint Added.; DatasheetVersion: Jul-1996; PackageVersion: Mar-2000; PackageReference: DW024; Publisher: Altium Limited; PackageDescription: 24-Pin Plastic Small Outline Integrated Circuit 1.27 mm Pitch; Code_JEDEC: MS-013; ComponentLink1Description: Manufacturer Link; ComponentLink1URL: http://www.ti.com/; ComponentLink2Description: Datasheet; ComponentLink2URL: http://www-s.ti.com/sc/ds/sn74bct8373a.pdf
footprint DW024_N (SOIC, 24-Leads, Body 15.4x7.5mm, Pitch 1.27mm, IPC Medium Density)
footprint DW024_L (SOIC, 24-Leads, Body 15.4x7.5mm, Pitch 1.27mm, IPC High Density)
footprint DW024_M (SOIC, 24-Leads, Body 15.4x7.5mm, Pitch 1.27mm, IPC Low Density)
3D model DW024 (24-Pin Plastic Small Outline Integrated Circuit 1.27 mm Pitch)
signal-integrity model SN74BCT8373ADW
pins: 1 LE (in), 2 Q1 (hiz), 3 Q2 (hiz), 4 Q3 (hiz), 5 Q4 (hiz), 6 GND (power), 7 Q5 (hiz), 8 Q6 (hiz), 9 Q7 (hiz), 10 Q8 (hiz), 11 TDO (hiz), 12 TMS (in), 13 TCK (in), 14 TDI (in), 15 D8 (in), 16 D7 (in), 17 D6 (in), 18 VCC (power), 19 D5 (in), 20 D4 (in), 21 D3 (in), 22 D2 (in), 23 D1 (in), 24 ~{OE} (in)

## SN74BCT8373ANT
designator U?
Scan Test Device with Octal D-Type Latches; Published: 8-Jun-2000; LatestRevisionDate: 06-Jun-2005; LatestRevisionNote: Stylized 3D Model Added.; DatasheetVersion: Jul-1996; PackageVersion: Oct-1994; PackageReference: NT024; Publisher: Altium Limited; PackageDescription: DIP; 24 Leads; Row Spacing 7.62 mm; Pitch 2.54 mm; Code_JEDEC: MS-001-AF; ComponentLink1Description: Manufacturer Link; ComponentLink1URL: http://www.ti.com/; ComponentLink2Description: Datasheet; ComponentLink2URL: http://www-s.ti.com/sc/ds/sn74bct8373a.pdf
footprint NT024 (DIP; 24 Leads; Row Spacing 7.62 mm; Pitch 2.54 mm)
3D model JT024 (DIP; 24 Leads; Row Spacing 7.62 mm; Pitch 2.54 mm)
signal-integrity model SN74BCT8373ANT
pins: 1 LE (in), 2 Q1 (hiz), 3 Q2 (hiz), 4 Q3 (hiz), 5 Q4 (hiz), 6 GND (power), 7 Q5 (hiz), 8 Q6 (hiz), 9 Q7 (hiz), 10 Q8 (hiz), 11 TDO (hiz), 12 TMS (in), 13 TCK (in), 14 TDI (in), 15 D8 (in), 16 D7 (in), 17 D6 (in), 18 VCC (power), 19 D5 (in), 20 D4 (in), 21 D3 (in), 22 D2 (in), 23 D1 (in), 24 ~{OE} (in)

## SN74BCT8373DW
designator U?
Scan Test Device with Octal D-Type Latches; ComponentAvailability: Obsolete; Published: 8-Jun-2000; LatestRevisionDate: 13-Apr-2006; LatestRevisionNote: IPC-7351 Footprint Added.; DatasheetVersion: Jun-1994; PackageVersion: Mar-2000; PackageReference: DW024; Publisher: Altium Limited; PackageDescription: 24-Pin Plastic Small Outline Integrated Circuit 1.27 mm Pitch; Code_JEDEC: MS-013; ComponentLink1Description: Manufacturer Link; ComponentLink1URL: http://www.ti.com/; ComponentLink2Description: Datasheet; ComponentLink2URL: http://www-s.ti.com/sc/ds/sn74bct8373.pdf
footprint DW024_N (SOIC, 24-Leads, Body 15.4x7.5mm, Pitch 1.27mm, IPC Medium Density)
footprint DW024_L (SOIC, 24-Leads, Body 15.4x7.5mm, Pitch 1.27mm, IPC High Density)
footprint DW024_M (SOIC, 24-Leads, Body 15.4x7.5mm, Pitch 1.27mm, IPC Low Density)
3D model DW024 (24-Pin Plastic Small Outline Integrated Circuit 1.27 mm Pitch)
signal-integrity model SN74BCT8373DW
pins: 1 LE (in), 2 Q1 (hiz), 3 Q2 (hiz), 4 Q3 (hiz), 5 Q4 (hiz), 6 GND (power), 7 Q5 (hiz), 8 Q6 (hiz), 9 Q7 (hiz), 10 Q8 (hiz), 11 TDO (hiz), 12 TMS (in), 13 TCK (in), 14 TDI (in), 15 D8 (in), 16 D7 (in), 17 D6 (in), 18 VCC (power), 19 D5 (in), 20 D4 (in), 21 D3 (in), 22 D2 (in), 23 D1 (in), 24 ~{OE} (in)

## SN74BCT8373NT
designator U?
Scan Test Device with Octal D-Type Latches; ComponentAvailability: Obsolete; Published: 8-Jun-2000; LatestRevisionDate: 06-Jun-2005; LatestRevisionNote: Stylized 3D Model Added.; DatasheetVersion: Jun-1994; PackageVersion: Oct-1994; PackageReference: NT024; Publisher: Altium Limited; PackageDescription: DIP; 24 Leads; Row Spacing 7.62 mm; Pitch 2.54 mm; Code_JEDEC: MS-001-AF; ComponentLink1Description: Manufacturer Link; ComponentLink1URL: http://www.ti.com/; ComponentLink2Description: Datasheet; ComponentLink2URL: http://www-s.ti.com/sc/ds/sn74bct8373.pdf
footprint NT024 (DIP; 24 Leads; Row Spacing 7.62 mm; Pitch 2.54 mm)
3D model JT024 (DIP; 24 Leads; Row Spacing 7.62 mm; Pitch 2.54 mm)
signal-integrity model SN74BCT8373NT
pins: 1 LE (in), 2 Q1 (hiz), 3 Q2 (hiz), 4 Q3 (hiz), 5 Q4 (hiz), 6 GND (power), 7 Q5 (hiz), 8 Q6 (hiz), 9 Q7 (hiz), 10 Q8 (hiz), 11 TDO (hiz), 12 TMS (in), 13 TCK (in), 14 TDI (in), 15 D8 (in), 16 D7 (in), 17 D6 (in), 18 VCC (power), 19 D5 (in), 20 D4 (in), 21 D3 (in), 22 D2 (in), 23 D1 (in), 24 ~{OE} (in)

## SN74BCT8374ADW
designator U?
Scan Test Device with Octal D-Type Edge-Triggered Flip-Flops; Published: 8-Jun-2000; LatestRevisionDate: 13-Apr-2006; LatestRevisionNote: IPC-7351 Footprint Added.; DatasheetVersion: Jul-1996; PackageVersion: Mar-2000; PackageReference: DW024; Publisher: Altium Limited; PackageDescription: 24-Pin Plastic Small Outline Integrated Circuit 1.27 mm Pitch; Code_JEDEC: MS-013; ComponentLink1Description: Manufacturer Link; ComponentLink1URL: http://www.ti.com/; ComponentLink2Description: Datasheet; ComponentLink2URL: http://www-s.ti.com/sc/ds/sn74bct8374a.pdf
footprint DW024_N (SOIC, 24-Leads, Body 15.4x7.5mm, Pitch 1.27mm, IPC Medium Density)
footprint DW024_L (SOIC, 24-Leads, Body 15.4x7.5mm, Pitch 1.27mm, IPC High Density)
footprint DW024_M (SOIC, 24-Leads, Body 15.4x7.5mm, Pitch 1.27mm, IPC Low Density)
3D model DW024 (24-Pin Plastic Small Outline Integrated Circuit 1.27 mm Pitch)
signal-integrity model SN74BCT8374ADW
pins: 1 CLK (in), 2 1Q (hiz), 3 2Q (hiz), 4 3Q (hiz), 5 4Q (hiz), 6 GND (power), 7 5Q (hiz), 8 6Q (hiz), 9 7Q (hiz), 10 8Q (hiz), 11 TDO (hiz), 12 TMS (in), 13 TCK (in), 14 TDI (in), 15 8D (in), 16 7D (in), 17 6D (in), 18 VCC (power), 19 5D (in), 20 4D (in), 21 3D (in), 22 2D (in), 23 1D (in), 24 ~{OE} (in)

## SN74BCT8374ANT
designator U?
Scan Test Device with Octal D-Type Edge-Triggered Flip-Flops; Published: 8-Jun-2000; LatestRevisionDate: 06-Jun-2005; LatestRevisionNote: Stylized 3D Model Added.; DatasheetVersion: Jul-1996; PackageVersion: Oct-1994; PackageReference: NT024; Publisher: Altium Limited; PackageDescription: DIP; 24 Leads; Row Spacing 7.62 mm; Pitch 2.54 mm; Code_JEDEC: MS-001-AF; ComponentLink1Description: Manufacturer Link; ComponentLink1URL: http://www.ti.com/; ComponentLink2Description: Datasheet; ComponentLink2URL: http://www-s.ti.com/sc/ds/sn74bct8374a.pdf
footprint NT024 (DIP; 24 Leads; Row Spacing 7.62 mm; Pitch 2.54 mm)
3D model JT024 (DIP; 24 Leads; Row Spacing 7.62 mm; Pitch 2.54 mm)
signal-integrity model SN74BCT8374ANT
pins: 1 CLK (in), 2 1Q (hiz), 3 2Q (hiz), 4 3Q (hiz), 5 4Q (hiz), 6 GND (power), 7 5Q (hiz), 8 6Q (hiz), 9 7Q (hiz), 10 8Q (hiz), 11 TDO (hiz), 12 TMS (in), 13 TCK (in), 14 TDI (in), 15 8D (in), 16 7D (in), 17 6D (in), 18 VCC (power), 19 5D (in), 20 4D (in), 21 3D (in), 22 2D (in), 23 1D (in), 24 ~{OE} (in)

## SN74LVT8980DW
designator U?
Embedded Test-Bus Controller IEEE Std 1149.1 (JTAG) Tap Master with 8-Bit Generic Host Interface; ComponentAvailability: Not For New Design; Published: 8-Jun-2000; LatestRevisionDate: 13-Apr-2006; LatestRevisionNote: IPC-7351 Footprint Added.; DatasheetVersion: Aug-1997; PackageVersion: Mar-2000; PackageReference: DW024; Publisher: Altium Limited; PackageDescription: 24-Pin Plastic Small Outline Integrated Circuit 1.27 mm Pitch; Code_JEDEC: MS-013; ComponentLink1Description: Manufacturer Link; ComponentLink1URL: http://www.ti.com/; ComponentLink2Description: Datasheet; ComponentLink2URL: http://www-s.ti.com/sc/ds/sn74lvt8980.pdf
footprint DW024_N (SOIC, 24-Leads, Body 15.4x7.5mm, Pitch 1.27mm, IPC Medium Density)
footprint DW024_L (SOIC, 24-Leads, Body 15.4x7.5mm, Pitch 1.27mm, IPC High Density)
footprint DW024_M (SOIC, 24-Leads, Body 15.4x7.5mm, Pitch 1.27mm, IPC Low Density)
3D model DW024 (24-Pin Plastic Small Outline Integrated Circuit 1.27 mm Pitch)
signal-integrity model SN74LVT8980DW
pins: 1 ~{STRB} (in), 2 R/~{W} (in), 3 D0 (io), 4 D1 (io), 5 D2 (io), 6 D3 (io), 7 GND (power), 8 D4 (io), 9 D5 (io), 10 D6 (io), 11 D7 (io), 12 CLKIN (in), 13 ~{TOE} (in), 14 ~{RST} (in), 15 TDI (out), 16 ~{TRST} (power), 17 TMS (hiz), 18 TCK (hiz), 19 VCC (power), 20 TDO (hiz), 21 RDY (out), 22 A2 (in), 23 A1 (in), 24 A0 (in)

## SN74LVT18245DGG
designator U?
3.3-V ABT Scan Test Device with 18-Bit Bus Transceiver; Published: 8-Jun-2000; LatestRevisionDate: 06-Jun-2005; LatestRevisionNote: Stylized 3D Model Added.; DatasheetVersion: Aug-1994; PackageVersion: Jan-1998; PackageReference: DGG056; Publisher: Altium Limited; PackageDescription: Shrink Small Outline; 56 Leads; Body Width 6.1 mm; Pitch 0.5 mm; ComponentLink1Description: Manufacturer Link; ComponentLink1URL: http://www.ti.com/
footprint DGG056 (Shrink Small Outline; 56 Leads; Body Width 6.1 mm; Pitch 0.5 mm)
3D model DGG056 (Shrink Small Outline; 56 Leads; Body Width 6.1 mm; Pitch 0.5 mm)
signal-integrity model SN74LVT18245DGG
pins: 1 1DIR (in), 2 1B1 (io), 3 1B2 (io), 4 GND (power), 5 1B3 (io), 6 1B4 (io), 7 VCC (power), 8 1B5 (io), 9 1B6 (io), 10 1B7 (io), 11 GND (power), 12 1B8 (io), 13 1B9 (io), 14 2B1 (io), 15 2B2 (io), 16 2B3 (io), 17 2B4 (io), 18 GND (power), 19 2B5 (io), 20 2B6 (io), 21 2B7 (io), 22 VCC (power), 23 2B8 (io), 24 2B9 (io), 25 GND (power), 26 2DIR (in), 27 TDO (hiz), 28 TMS (in), 29 TCK (in), 30 TDI (in), 31 2~{OE} (in), 32 GND (power), 33 2A9 (io), 34 2A8 (io), 35 VCC (power), 36 2A7 (io), 37 2A6 (io), 38 2A5 (io), 39 GND (power), 40 2A4 (io), 41 2A3 (io), 42 2A2 (io), 43 2A1 (io), 44 1A9 (io), 45 1A8 (io), 46 GND (power), 47 1A7 (io), 48 1A6 (io), 49 1A5 (io), 50 VCC (power), 51 1A4 (io), 52 1A3 (io), 53 GND (power), 54 1A2 (io), 55 1A1 (io), 56 1~{OE} (in)

## SN74LVT18245DL
designator U?
3.3-V ABT Scan Test Device with 18-Bit Bus Transceiver; Published: 8-Jun-2000; LatestRevisionDate: 06-Jun-2005; LatestRevisionNote: Stylized 3D Model Added.; DatasheetVersion: Aug-1994; PackageVersion: Dec-2001; PackageReference: DL056; Publisher: Altium Limited; PackageDescription: SSOP; 56 Leads; Body Width 7.5 mm; Pitch 0.635 mm; Code_JEDEC: MO-118-AB; Code_IPC: SSO56; ComponentLink1Description: Manufacturer Link; ComponentLink1URL: http://www.ti.com/
footprint DL056 (SSOP; 56 Leads; Body Width 7.5 mm; Pitch 0.635 mm)
3D model DL056 (SSOP; 56 Leads; Body Width 7.5 mm; Pitch 0.635 mm)
signal-integrity model SN74LVT18245DL
pins: 1 1DIR (in), 2 1B1 (io), 3 1B2 (io), 4 GND (power), 5 1B3 (io), 6 1B4 (io), 7 VCC (power), 8 1B5 (io), 9 1B6 (io), 10 1B7 (io), 11 GND (power), 12 1B8 (io), 13 1B9 (io), 14 2B1 (io), 15 2B2 (io), 16 2B3 (io), 17 2B4 (io), 18 GND (power), 19 2B5 (io), 20 2B6 (io), 21 2B7 (io), 22 VCC (power), 23 2B8 (io), 24 2B9 (io), 25 GND (power), 26 2DIR (in), 27 TDO (hiz), 28 TMS (in), 29 TCK (in), 30 TDI (in), 31 2~{OE} (in), 32 GND (power), 33 2A9 (io), 34 2A8 (io), 35 VCC (power), 36 2A7 (io), 37 2A6 (io), 38 2A5 (io), 39 GND (power), 40 2A4 (io), 41 2A3 (io), 42 2A2 (io), 43 2A1 (io), 44 1A9 (io), 45 1A8 (io), 46 GND (power), 47 1A7 (io), 48 1A6 (io), 49 1A5 (io), 50 VCC (power), 51 1A4 (io), 52 1A3 (io), 53 GND (power), 54 1A2 (io), 55 1A1 (io), 56 1~{OE} (in)

## SN74LVT18502PM
designator U?
3.3-V ABT Scan Test Device with 18-Bit Universal Bus Transceiver; ComponentAvailability: Obsolete; Published: 8-Jun-2000; LatestRevisionDate: 13-Apr-2006; LatestRevisionNote: IPC-7351 Footprint Added.; DatasheetVersion: Jul-1994; PackageVersion: Dec-1996; PackageReference: PM064; Publisher: Altium Limited; PackageDescription: 64-Pin Thin Quad Flat Pack 0.5 mm Pitch; ComponentLink1Description: Manufacturer Link; ComponentLink1URL: http://www.ti.com/; ComponentLink2Description: Datasheet; ComponentLink2URL: http://www-s.ti.com/sc/ds/sn74lvt18502.pdf
footprint PM064_N (Thin QFP, 64-Leads, Body 10x10mm, Pitch 0.5mm, IPC Medium Density)
footprint PM064_L (Thin QFP, 64-Leads, Body 10x10mm, Pitch 0.5mm, IPC High Density)
footprint PM064_M (Thin QFP, 64-Leads, Body 10x10mm, Pitch 0.5mm, IPC Low Density)
3D model SN74LVT18502-PM064 (64-Pin Thin Quad Flat Pack 0.5 mm Pitch)
signal-integrity model SN74LVT18502PM
pins: 1 1A3 (io), 2 1A4 (io), 3 1A5 (io), 4 GND (power), 5 1A6 (io), 6 1A7 (io), 7 1A8 (io), 8 1A9 (io), 9 VCC (power), 10 2A1 (io), 11 2A2 (io), 12 2A3 (io), 13 GND (power), 14 2A4 (io), 15 2A5 (io), 16 2A6 (io), 17 2A7 (io), 18 2A8 (io), 19 2A9 (io), 20 GND (power), 21 ~{2OEAB} (in), 22 2LEAB (in), 23 2CLKAB (in), 24 TDI (in), 25 VCC (power), 26 TCK (in), 27 2CLKBA (in), 28 2LEBA (in), 29 GND (power), 30 ~{2OEBA} (in), 31 2B9 (io), 32 2B8 (io), 33 2B7 (io), 34 2B6 (io), 35 2B5 (io), 36 GND (power), 37 2B4 (io), 38 2B3 (io), 39 2B2 (io), 40 2B1 (io), 41 VCC (power), 42 1B9 (io), 43 1B8 (io), 44 1B7 (io), 45 GND (power), 46 1B6 (io), 47 1B5 (io), 48 1B4 (io), 49 1B3 (io), 50 1B2 (io), 51 1B1 (io), 52 GND (power), 53 ~{1OEBA} (in), 54 1LEBA (in), 55 1CLKBA (in), 56 TMS (in), 57 VCC (power), 58 TDO (hiz), 59 1CLKAB (in), 60 1LEAB (in), 61 GND (power), 62 ~{1OEAB} (in), 63 1A1 (io), 64 1A2 (io)

## SN74LVT18504PM
designator U?
3.3-V ABT Scan Test Device with 20-Bit Universal Bus Transceiver; ComponentAvailability: Obsolete; Published: 8-Jun-2000; LatestRevisionDate: 13-Apr-2006; LatestRevisionNote: IPC-7351 Footprint Added.; DatasheetVersion: Jul-1994; PackageVersion: Dec-1996; PackageReference: PM064; Publisher: Altium Limited; PackageDescription: 64-Pin Thin Quad Flat Pack 0.5 mm Pitch; ComponentLink1Description: Manufacturer Link; ComponentLink1URL: http://www.ti.com/; ComponentLink2Description: Datasheet; ComponentLink2URL: http://www-s.ti.com/sc/ds/sn74lvt18504.pdf
footprint PM064_N (Thin QFP, 64-Leads, Body 10x10mm, Pitch 0.5mm, IPC Medium Density)
footprint PM064_L (Thin QFP, 64-Leads, Body 10x10mm, Pitch 0.5mm, IPC High Density)
footprint PM064_M (Thin QFP, 64-Leads, Body 10x10mm, Pitch 0.5mm, IPC Low Density)
3D model SN74LVT18504-PM064 (64-Pin Thin Quad Flat Pack 0.5 mm Pitch)
signal-integrity model SN74LVT18504PM
pins: 1 A4 (io), 2 A5 (io), 3 A6 (io), 4 GND (power), 5 A7 (io), 6 A8 (io), 7 A9 (io), 8 A10 (io), 9 VCC (power), 10 A11 (io), 11 A12 (io), 12 A13 (io), 13 GND (power), 14 A14 (io), 15 A15 (io), 16 A16 (io), 17 A17 (io), 18 A18 (io), 19 A19 (io), 20 GND (power), 21 A20 (io), 22 ~{CLKENAB} (in), 23 CLKAB (in), 24 TDI (in), 25 VCC (power), 26 TCK (in), 27 LEAB (in), 28 ~{OEAB} (in), 29 GND (power), 30 B20 (io), 31 B19 (io), 32 B18 (io), 33 B17 (io), 34 B16 (io), 35 B15 (io), 36 GND (power), 37 B14 (io), 38 B13 (io), 39 B12 (io), 40 B11 (io), 41 VCC (power), 42 B10 (io), 43 B9 (io), 44 B8 (io), 45 GND (power), 46 B7 (io), 47 B6 (io), 48 B5 (io), 49 B4 (io), 50 B3 (io), 51 B2 (io), 52 GND (power), 53 B1 (io), 54 ~{CLKENBA} (in), 55 CLKBA (in), 56 TMS (in), 57 VCC (power), 58 TDO (hiz), 59 LEBA (in), 60 ~{OEBA} (in), 61 GND (power), 62 A1 (io), 63 A2 (io), 64 A3 (io)

## SN74LVT18640DGG
designator U?
3.3-V ABT Scan Test Device with 18-Bit Inverting Bus Transceiver; Published: 8-Jun-2000; LatestRevisionDate: 06-Jun-2005; LatestRevisionNote: Stylized 3D Model Added.; DatasheetVersion: Aug-1994; PackageVersion: Jan-1998; PackageReference: DGG056; Publisher: Altium Limited; PackageDescription: Shrink Small Outline; 56 Leads; Body Width 6.1 mm; Pitch 0.5 mm; ComponentLink1Description: Manufacturer Link; ComponentLink1URL: http://www.ti.com/
footprint DGG056 (Shrink Small Outline; 56 Leads; Body Width 6.1 mm; Pitch 0.5 mm)
3D model DGG056 (Shrink Small Outline; 56 Leads; Body Width 6.1 mm; Pitch 0.5 mm)
signal-integrity model SN74LVT18640DGG
pins: 1 1DIR (in), 2 1B1 (io), 3 1B2 (io), 4 GND (power), 5 1B3 (io), 6 1B4 (io), 7 VCC (power), 8 1B5 (io), 9 1B6 (io), 10 1B7 (io), 11 GND (power), 12 1B8 (io), 13 1B9 (io), 14 2B1 (io), 15 2B2 (io), 16 2B3 (io), 17 2B4 (io), 18 GND (power), 19 2B5 (io), 20 2B6 (io), 21 2B7 (io), 22 VCC (power), 23 2B8 (io), 24 2B9 (io), 25 GND (power), 26 2DIR (in), 27 TDO (hiz), 28 TMS (in), 29 TCK (in), 30 TDI (in), 31 2~{OE} (in), 32 GND (power), 33 2A9 (io), 34 2A8 (io), 35 VCC (power), 36 2A7 (io), 37 2A6 (io), 38 2A5 (io), 39 GND (power), 40 2A4 (io), 41 2A3 (io), 42 2A2 (io), 43 2A1 (io), 44 1A9 (io), 45 1A8 (io), 46 GND (power), 47 1A7 (io), 48 1A6 (io), 49 1A5 (io), 50 VCC (power), 51 1A4 (io), 52 1A3 (io), 53 GND (power), 54 1A2 (io), 55 1A1 (io), 56 1~{OE} (in)

## SN74LVT18640DL
designator U?
3.3-V ABT Scan Test Device with 18-Bit Inverting Bus Transceiver; Published: 8-Jun-2000; LatestRevisionDate: 06-Jun-2005; LatestRevisionNote: Stylized 3D Model Added.; DatasheetVersion: Aug-1994; PackageVersion: Dec-2001; PackageReference: DL056; Publisher: Altium Limited; PackageDescription: SSOP; 56 Leads; Body Width 7.5 mm; Pitch 0.635 mm; Code_JEDEC: MO-118-AB; Code_IPC: SSO56; ComponentLink1Description: Manufacturer Link; ComponentLink1URL: http://www.ti.com/
footprint DL056 (SSOP; 56 Leads; Body Width 7.5 mm; Pitch 0.635 mm)
3D model DL056 (SSOP; 56 Leads; Body Width 7.5 mm; Pitch 0.635 mm)
signal-integrity model SN74LVT18640DL
pins: 1 1DIR (in), 2 1B1 (io), 3 1B2 (io), 4 GND (power), 5 1B3 (io), 6 1B4 (io), 7 VCC (power), 8 1B5 (io), 9 1B6 (io), 10 1B7 (io), 11 GND (power), 12 1B8 (io), 13 1B9 (io), 14 2B1 (io), 15 2B2 (io), 16 2B3 (io), 17 2B4 (io), 18 GND (power), 19 2B5 (io), 20 2B6 (io), 21 2B7 (io), 22 VCC (power), 23 2B8 (io), 24 2B9 (io), 25 GND (power), 26 2DIR (in), 27 TDO (hiz), 28 TMS (in), 29 TCK (in), 30 TDI (in), 31 2~{OE} (in), 32 GND (power), 33 2A9 (io), 34 2A8 (io), 35 VCC (power), 36 2A7 (io), 37 2A6 (io), 38 2A5 (io), 39 GND (power), 40 2A4 (io), 41 2A3 (io), 42 2A2 (io), 43 2A1 (io), 44 1A9 (io), 45 1A8 (io), 46 GND (power), 47 1A7 (io), 48 1A6 (io), 49 1A5 (io), 50 VCC (power), 51 1A4 (io), 52 1A3 (io), 53 GND (power), 54 1A2 (io), 55 1A1 (io), 56 1~{OE} (in)

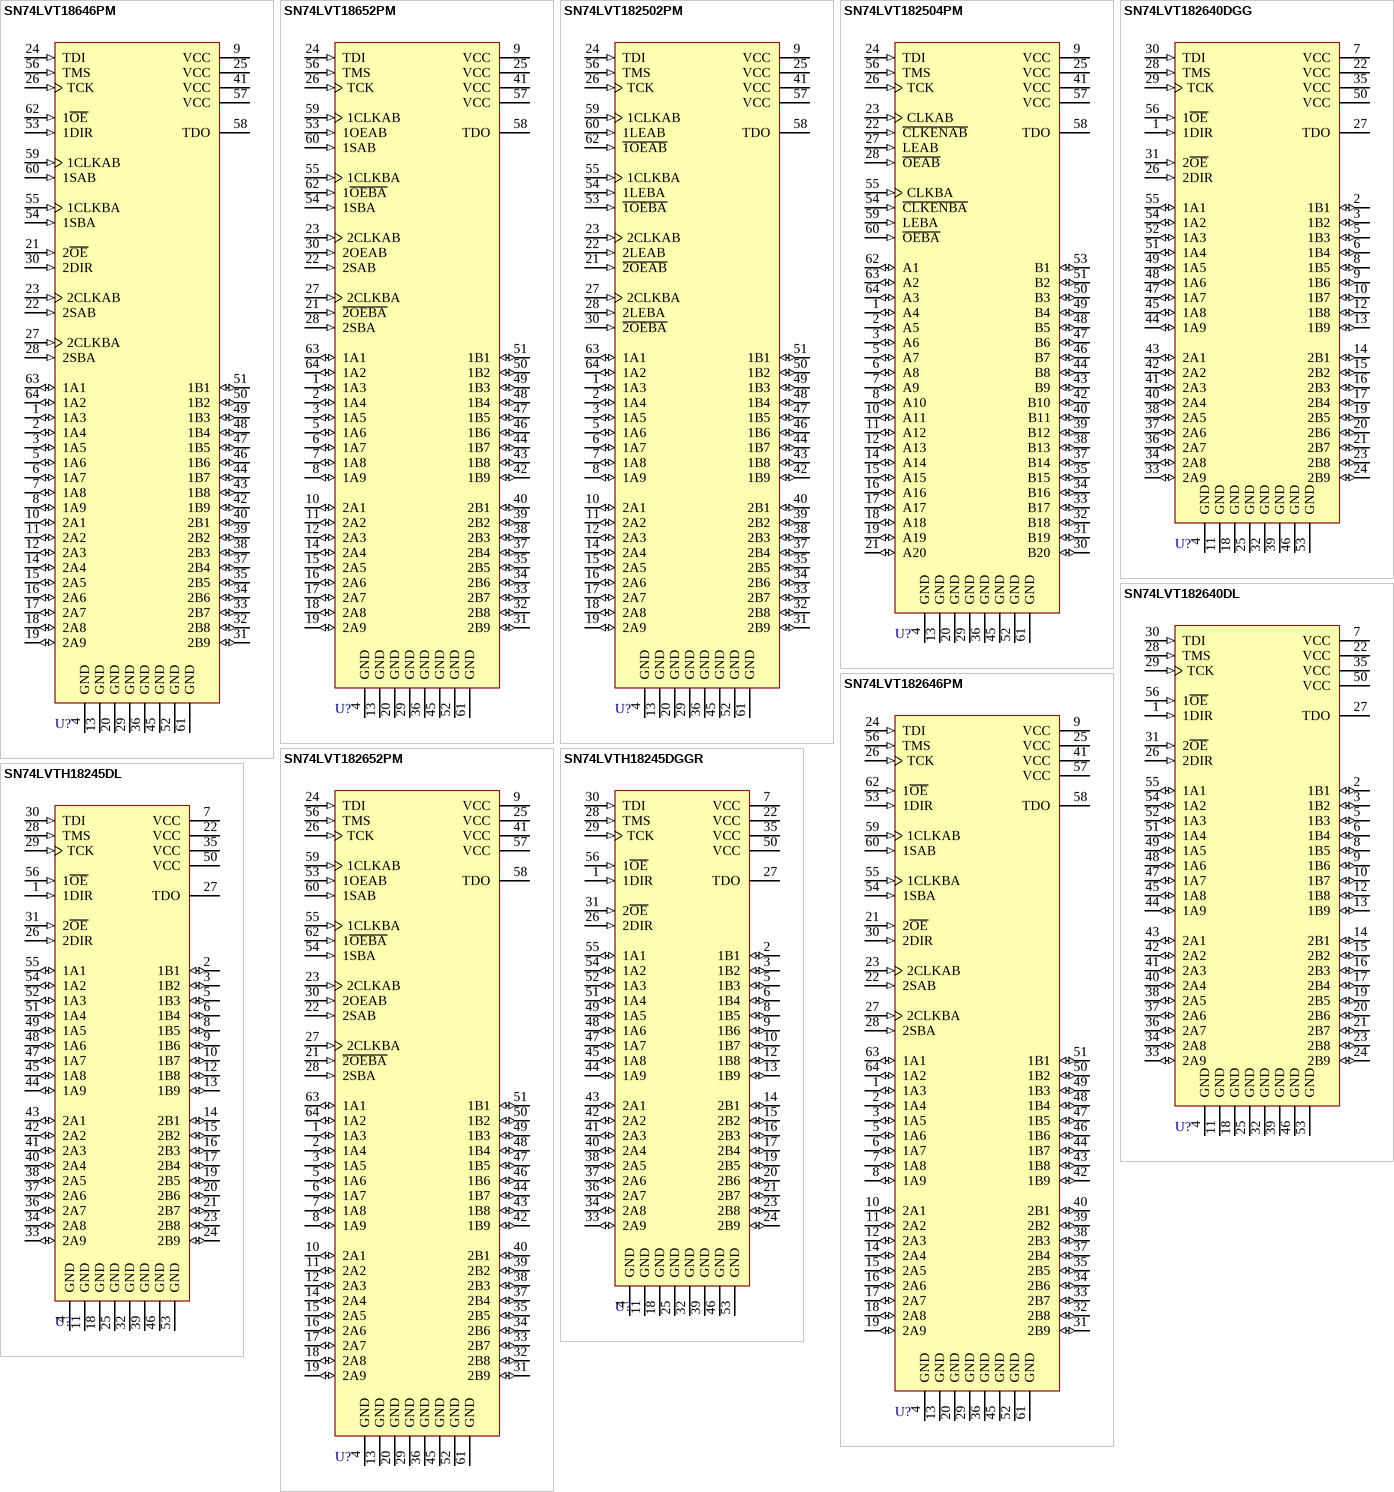
[diagram p4: symbols SN74LVT18646PM to SN74LVTH18245DL]

## SN74LVT18646PM
designator U?
3.3-V ABT Scan Test Device with 18-Bit Transceiver and Register; Published: 8-Jun-2000; LatestRevisionDate: 13-Apr-2006; LatestRevisionNote: IPC-7351 Footprint Added.; DatasheetVersion: Jul-1994; PackageVersion: Dec-1996; PackageReference: PM064; Publisher: Altium Limited; PackageDescription: 64-Pin Thin Quad Flat Pack 0.5 mm Pitch; ComponentLink1Description: Manufacturer Link; ComponentLink1URL: http://www.ti.com/
footprint PM064_N (Thin QFP, 64-Leads, Body 10x10mm, Pitch 0.5mm, IPC Medium Density)
footprint PM064_L (Thin QFP, 64-Leads, Body 10x10mm, Pitch 0.5mm, IPC High Density)
footprint PM064_M (Thin QFP, 64-Leads, Body 10x10mm, Pitch 0.5mm, IPC Low Density)
3D model SN74LVT18646-PM064 (64-Pin Thin Quad Flat Pack 0.5 mm Pitch)
signal-integrity model SN74LVT18646PM
pins: 1 1A3 (io), 2 1A4 (io), 3 1A5 (io), 4 GND (power), 5 1A6 (io), 6 1A7 (io), 7 1A8 (io), 8 1A9 (io), 9 VCC (power), 10 2A1 (io), 11 2A2 (io), 12 2A3 (io), 13 GND (power), 14 2A4 (io), 15 2A5 (io), 16 2A6 (io), 17 2A7 (io), 18 2A8 (io), 19 2A9 (io), 20 GND (power), 21 2~{OE} (in), 22 2SAB (in), 23 2CLKAB (in), 24 TDI (in), 25 VCC (power), 26 TCK (in), 27 2CLKBA (in), 28 2SBA (in), 29 GND (power), 30 2DIR (in), 31 2B9 (io), 32 2B8 (io), 33 2B7 (io), 34 2B6 (io), 35 2B5 (io), 36 GND (power), 37 2B4 (io), 38 2B3 (io), 39 2B2 (io), 40 2B1 (io), 41 VCC (power), 42 1B9 (io), 43 1B8 (io), 44 1B7 (io), 45 GND (power), 46 1B6 (io), 47 1B5 (io), 48 1B4 (io), 49 1B3 (io), 50 1B2 (io), 51 1B1 (io), 52 GND (power), 53 1DIR (in), 54 1SBA (in), 55 1CLKBA (in), 56 TMS (in), 57 VCC (power), 58 TDO (hiz), 59 1CLKAB (in), 60 1SAB (in), 61 GND (power), 62 1~{OE} (in), 63 1A1 (io), 64 1A2 (io)

## SN74LVT18652PM
designator U?
3.3-V ABT Scan Test Device with 18-Bit Transceivers and Registers; Published: 8-Jun-2000; LatestRevisionDate: 13-Apr-2006; LatestRevisionNote: IPC-7351 Footprint Added.; DatasheetVersion: Jul-1994; PackageVersion: Dec-1996; PackageReference: PM064; Publisher: Altium Limited; PackageDescription: 64-Pin Thin Quad Flat Pack 0.5 mm Pitch; ComponentLink1Description: Manufacturer Link; ComponentLink1URL: http://www.ti.com/
footprint PM064_N (Thin QFP, 64-Leads, Body 10x10mm, Pitch 0.5mm, IPC Medium Density)
footprint PM064_L (Thin QFP, 64-Leads, Body 10x10mm, Pitch 0.5mm, IPC High Density)
footprint PM064_M (Thin QFP, 64-Leads, Body 10x10mm, Pitch 0.5mm, IPC Low Density)
3D model SN74LVT18652-PM064 (64-Pin Thin Quad Flat Pack 0.5 mm Pitch)
signal-integrity model SN74LVT18652PM
pins: 1 1A3 (io), 2 1A4 (io), 3 1A5 (io), 4 GND (power), 5 1A6 (io), 6 1A7 (io), 7 1A8 (io), 8 1A9 (io), 9 VCC (power), 10 2A1 (io), 11 2A2 (io), 12 2A3 (io), 13 GND (power), 14 2A4 (io), 15 2A5 (io), 16 2A6 (io), 17 2A7 (io), 18 2A8 (io), 19 2A9 (io), 20 GND (power), 21 ~{2OEBA} (in), 22 2SAB (in), 23 2CLKAB (in), 24 TDI (in), 25 VCC (power), 26 TCK (in), 27 2CLKBA (in), 28 2SBA (in), 29 GND (power), 30 2OEAB (in), 31 2B9 (io), 32 2B8 (io), 33 2B7 (io), 34 2B6 (io), 35 2B5 (io), 36 GND (power), 37 2B4 (io), 38 2B3 (io), 39 2B2 (io), 40 2B1 (io), 41 VCC (power), 42 1B9 (io), 43 1B8 (io), 44 1B7 (io), 45 GND (power), 46 1B6 (io), 47 1B5 (io), 48 1B4 (io), 49 1B3 (io), 50 1B2 (io), 51 1B1 (io), 52 GND (power), 53 1OEAB (in), 54 1SBA (in), 55 1CLKBA (in), 56 TMS (in), 57 VCC (power), 58 TDO (hiz), 59 1CLKAB (in), 60 1SAB (in), 61 GND (power), 62 1~{OEBA} (in), 63 1A1 (io), 64 1A2 (io)

## SN74LVT182502PM
designator U?
3.3-V ABT Scan Test Device with 18-Bit Universal Bus Transceiver; ComponentAvailability: Obsolete; Published: 8-Jun-2000; LatestRevisionDate: 13-Apr-2006; LatestRevisionNote: IPC-7351 Footprint Added.; DatasheetVersion: Jul-1994; PackageVersion: Dec-1996; PackageReference: PM064; Publisher: Altium Limited; PackageDescription: 64-Pin Thin Quad Flat Pack 0.5 mm Pitch; ComponentLink1Description: Manufacturer Link; ComponentLink1URL: http://www.ti.com/; ComponentLink2Description: Datasheet; ComponentLink2URL: http://www-s.ti.com/sc/ds/sn74lvt18502.pdf
footprint PM064_N (Thin QFP, 64-Leads, Body 10x10mm, Pitch 0.5mm, IPC Medium Density)
footprint PM064_L (Thin QFP, 64-Leads, Body 10x10mm, Pitch 0.5mm, IPC High Density)
footprint PM064_M (Thin QFP, 64-Leads, Body 10x10mm, Pitch 0.5mm, IPC Low Density)
3D model SN74LVT182502-PM064 (64-Pin Thin Quad Flat Pack 0.5 mm Pitch)
signal-integrity model SN74LVT182502PM
pins: 1 1A3 (io), 2 1A4 (io), 3 1A5 (io), 4 GND (power), 5 1A6 (io), 6 1A7 (io), 7 1A8 (io), 8 1A9 (io), 9 VCC (power), 10 2A1 (io), 11 2A2 (io), 12 2A3 (io), 13 GND (power), 14 2A4 (io), 15 2A5 (io), 16 2A6 (io), 17 2A7 (io), 18 2A8 (io), 19 2A9 (io), 20 GND (power), 21 ~{2OEAB} (in), 22 2LEAB (in), 23 2CLKAB (in), 24 TDI (in), 25 VCC (power), 26 TCK (in), 27 2CLKBA (in), 28 2LEBA (in), 29 GND (power), 30 ~{2OEBA} (in), 31 2B9 (io), 32 2B8 (io), 33 2B7 (io), 34 2B6 (io), 35 2B5 (io), 36 GND (power), 37 2B4 (io), 38 2B3 (io), 39 2B2 (io), 40 2B1 (io), 41 VCC (power), 42 1B9 (io), 43 1B8 (io), 44 1B7 (io), 45 GND (power), 46 1B6 (io), 47 1B5 (io), 48 1B4 (io), 49 1B3 (io), 50 1B2 (io), 51 1B1 (io), 52 GND (power), 53 ~{1OEBA} (in), 54 1LEBA (in), 55 1CLKBA (in), 56 TMS (in), 57 VCC (power), 58 TDO (hiz), 59 1CLKAB (in), 60 1LEAB (in), 61 GND (power), 62 ~{1OEAB} (in), 63 1A1 (io), 64 1A2 (io)

## SN74LVT182504PM
designator U?
3.3-V ABT Scan Test Device with 20-Bit Universal Bus Transceiver; Published: 8-Jun-2000; LatestRevisionDate: 13-Apr-2006; LatestRevisionNote: IPC-7351 Footprint Added.; DatasheetVersion: Jul-1994; PackageVersion: Dec-1996; PackageReference: PM064; Publisher: Altium Limited; PackageDescription: 64-Pin Thin Quad Flat Pack 0.5 mm Pitch; ComponentLink1Description: Manufacturer Link; ComponentLink1URL: http://www.ti.com/
footprint PM064_N (Thin QFP, 64-Leads, Body 10x10mm, Pitch 0.5mm, IPC Medium Density)
footprint PM064_L (Thin QFP, 64-Leads, Body 10x10mm, Pitch 0.5mm, IPC High Density)
footprint PM064_M (Thin QFP, 64-Leads, Body 10x10mm, Pitch 0.5mm, IPC Low Density)
3D model SN74LVT182504-PM064 (64-Pin Thin Quad Flat Pack 0.5 mm Pitch)
signal-integrity model SN74LVT182504PM
pins: 1 A4 (io), 2 A5 (io), 3 A6 (io), 4 GND (power), 5 A7 (io), 6 A8 (io), 7 A9 (io), 8 A10 (io), 9 VCC (power), 10 A11 (io), 11 A12 (io), 12 A13 (io), 13 GND (power), 14 A14 (io), 15 A15 (io), 16 A16 (io), 17 A17 (io), 18 A18 (io), 19 A19 (io), 20 GND (power), 21 A20 (io), 22 ~{CLKENAB} (in), 23 CLKAB (in), 24 TDI (in), 25 VCC (power), 26 TCK (in), 27 LEAB (in), 28 ~{OEAB} (in), 29 GND (power), 30 B20 (io), 31 B19 (io), 32 B18 (io), 33 B17 (io), 34 B16 (io), 35 B15 (io), 36 GND (power), 37 B14 (io), 38 B13 (io), 39 B12 (io), 40 B11 (io), 41 VCC (power), 42 B10 (io), 43 B9 (io), 44 B8 (io), 45 GND (power), 46 B7 (io), 47 B6 (io), 48 B5 (io), 49 B4 (io), 50 B3 (io), 51 B2 (io), 52 GND (power), 53 B1 (io), 54 ~{CLKENBA} (in), 55 CLKBA (in), 56 TMS (in), 57 VCC (power), 58 TDO (hiz), 59 LEBA (in), 60 ~{OEBA} (in), 61 GND (power), 62 A1 (io), 63 A2 (io), 64 A3 (io)